# EAGLE library part LT8650S-1 (library Analog Devices)
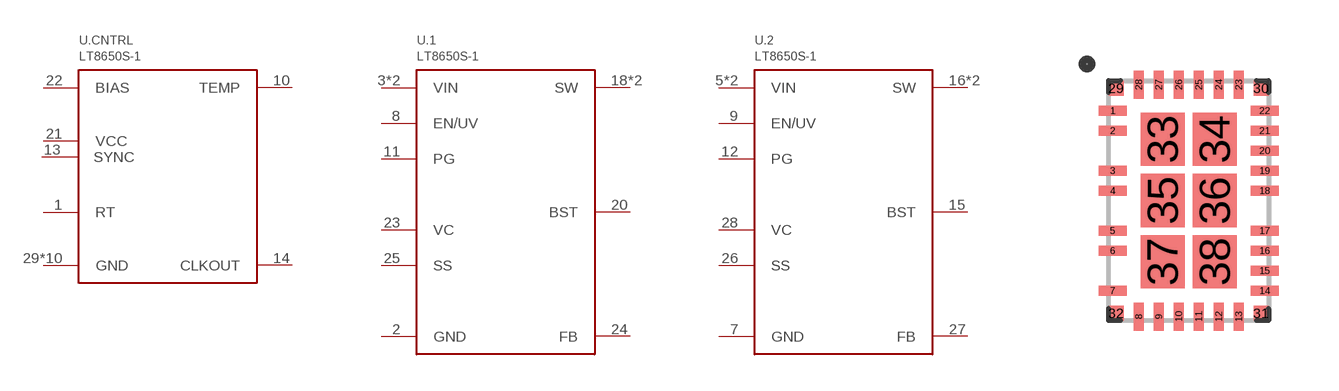
[diagram p41: symbol with the pads of QFN28_ASYM_CORNER; footprint QFN28_ASYM_CORNER]

Designator prefix U; gates .CNTRL=LT8650S-1-CNTRL .1=LT8650S-1-REG .2=LT8650S-1-REG

## LT8650S-1  [QFN28_ASYM_CORNER]
1  .CNTRL:RT
2  .1:GND
3  .1:VIN
4  .1:VIN
5  .2:VIN
6  .2:VIN
7  .2:GND
8  .1:EN/UV
9  .2:EN/UV
10  .CNTRL:TEMP
11  .1:PG
12  .2:PG
13  .CNTRL:SYNC
14  .CNTRL:CLKOUT
15  .2:BST
16  .2:SW
17  .2:SW
18  .1:SW
19  .1:SW
20  .1:BST
21  .CNTRL:VCC
22  .CNTRL:BIAS
23  .1:VC
24  .1:FB
25  .1:SS
26  .2:SS
27  .2:FB
28  .2:VC
29  .CNTRL:GND
30  .CNTRL:GND
31  .CNTRL:GND
32  .CNTRL:GND
33  .CNTRL:GND
34  .CNTRL:GND
35  .CNTRL:GND
36  .CNTRL:GND
37  .CNTRL:GND
38  .CNTRL:GND

## Footprint QFN28_ASYM_CORNER (pad centres in mm)
smd 0.7 x 0.25: 1 -1.9,2.25; 2 -1.9,1.75; 3 -1.9,0.75; 4 -1.9,0.25; 5 -1.9,-0.75; 6 -1.9,-1.25; 7 -1.9,-2.25; 14 1.9,-2.25; 15 1.9,-1.75; 16 1.9,-1.25; 17 1.9,-0.75; 18 1.9,0.25; 19 1.9,0.75; 20 1.9,1.25; 21 1.9,1.75; 22 1.9,2.25
smd 0.25 x 0.7: 8 -1.25,-2.9; 9 -0.75,-2.9; 10 -0.25,-2.9; 11 0.25,-2.9; 12 0.75,-2.9; 13 1.25,-2.9; 23 1.25,2.9; 24 0.75,2.9; 25 0.25,2.9; 26 -0.25,2.9; 27 -0.75,2.9; 28 -1.25,2.9
smd 0.375 x 0.375: 29 -1.812,2.812; 30 1.812,2.812; 31 1.812,-2.812; 32 -1.812,-2.812
smd 1.1 x 1.33: 33 -0.65,1.53; 34 0.65,1.53; 35 -0.65,0; 36 0.65,0; 37 -0.65,-1.53; 38 0.65,-1.53